# Altium integrated library Zener_BZX55B20.IntLib: 1 symbol
Pins are listed as number, name and electrical type; pins without a type are passive.

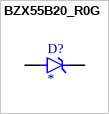
[diagram p0: symbol BZX55B20_R0G]

## BZX55B20_R0G
designator D?
MP: BZX55B20_R0G; Value: *; Package: None; Availability: Unavailable; Price: None
footprint DIOAD928W47L399D179
pins: A, C K